# Altium schematic symbol library 1.54Inch_240X240_IPS_8BIT.SchLib: 1 symbol
Pins are listed as number, name and electrical type; pins without a type are passive.

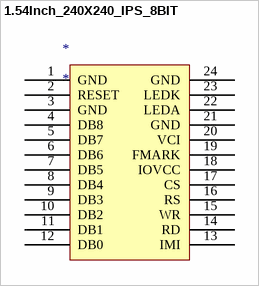
[diagram p0: symbol 1.54Inch_240X240_IPS_8BIT]

## 1.54Inch_240X240_IPS_8BIT
designator *
pins: 1 GND, 2 RESET, 3 GND, 4 DB8, 5 DB7, 6 DB6, 7 DB5, 8 DB4, 9 DB3, 10 DB2, 11 DB1, 12 DB0, 13 IMI, 14 RD, 15 WR, 16 RS, 17 CS, 18 IOVCC, 19 FMARK, 20 VCI, 21 GND, 22 LEDA, 23 LEDK, 24 GND